# EAGLE library part PINHD_7_RND (library 6502_lib)
PIN HEADER
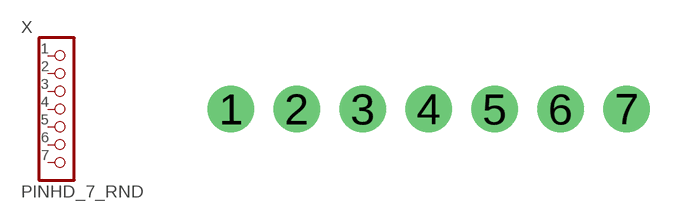
[diagram p6: symbol with the pads of 1X07; footprint 1X07]

Designator prefix X

## PINHD_7_RND  [1X07]
1  1  pas
2  2  pas
3  3  pas
4  4  pas
5  5  pas
6  6  pas
7  7  pas

## Footprint 1X07 (pad centres in mm)
PIN HEADER
drill 1.016 pad 1.778: 1 -7.62,0; 2 -5.08,0; 3 -2.54,0; 4 0,0; 5 2.54,0; 6 5.08,0; 7 7.62,0